# EAGLE library part IS61WV51216BLL-10TLI (library Rebel)
IS61WV51216BLL-10TLI - SRAM, 8MBIT, 10NS, 44TSOPII Manufacturer: INTEGRATED SILICON SOLUTION (ISSI) Farnell order code: 2253837 Manufacturer Part No: IS61WV51216BLL-10TLI Product Information SRAM, 8MBIT, 10NS, 44TSOPII Memory Size: 8Mbit Memory Configuration: 512K x 16bit Supply Voltage Min: 2.4V Supply Voltage Max: 3.6V Memory Case Style: TSOPII No. of Pins: 44 Access Time: 10ns Operating Temperature Min: -40°C Operating Temperature Max: 85°C MSL: MSL 3 - 168 hours SVHC: No SVHC (19-Dec-2012) Operating Temperature Range: -40°C to +85°C Supply Voltage Range: 2.4V to 3.6V
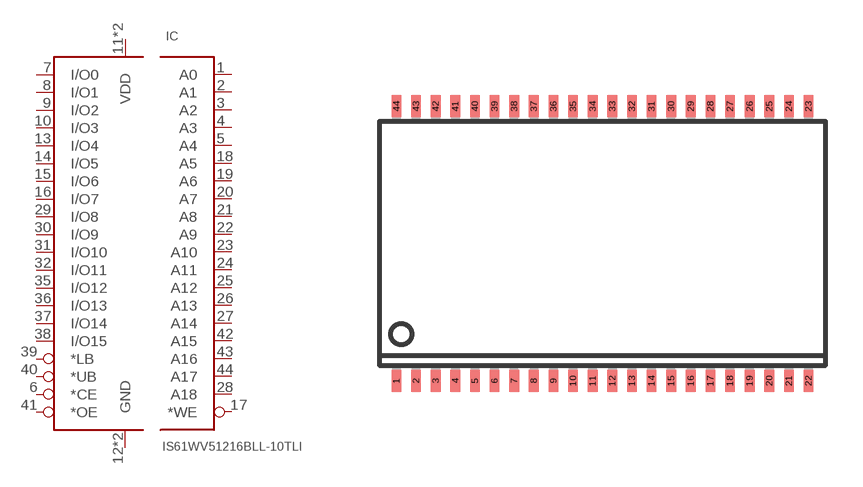
[diagram p0: symbol with the pads of TSOP44-II; footprint TSOP44-II]

Designator prefix IC

## IS61WV51216BLL-10TLI  [TSOP44-II]
1  A0  in
2  A1  in
3  A2  in
4  A3  in
5  A4  in
6  *CE
7  I/O0
8  I/O1
9  I/O2
10  I/O3
11  VDD  pwr
12  GND  pwr
13  I/O4
14  I/O5
15  I/O6
16  I/O7
17  *WE
18  A5  in
19  A6  in
20  A7  in
21  A8  in
22  A9  in
23  A10  in
24  A11  in
25  A12  in
26  A13  in
27  A14  in
28  A18  in
29  I/O8
30  I/O9
31  I/O10
32  I/O11
33  VDD  pwr
34  GND  pwr
35  I/O12
36  I/O13
37  I/O14
38  I/O15
39  *LB
40  *UB
41  *OE
42  A15  in
43  A16  in
44  A17  in

## Footprint TSOP44-II (pad centres in mm)
TSOPII 44 pins 44 lead Plastic Thin Small Outline Type II
smd 0.4 x 0.9: 1 -8.4,-5.6; 2 -7.6,-5.6; 3 -6.8,-5.6; 4 -6,-5.6; 5 -5.2,-5.6; 6 -4.4,-5.6; 7 -3.6,-5.6; 8 -2.8,-5.6; 9 -2,-5.6; 10 -1.2,-5.6; 11 -0.4,-5.6; 12 0.4,-5.6; 13 1.2,-5.6; 14 2,-5.6; 15 2.8,-5.6; 16 3.6,-5.6; 17 4.4,-5.6; 18 5.2,-5.6; 19 6,-5.6; 20 6.8,-5.6; 21 7.6,-5.6; 22 8.4,-5.6; 23 8.4,5.6; 24 7.6,5.6; 25 6.8,5.6; 26 6,5.6; 27 5.2,5.6; 28 4.4,5.6; 29 3.6,5.6; 30 2.8,5.6; 31 2,5.6; 32 1.2,5.6; 33 0.4,5.6; 34 -0.4,5.6; 35 -1.2,5.6; 36 -2,5.6; 37 -2.8,5.6; 38 -3.6,5.6; 39 -4.4,5.6; 40 -5.2,5.6; 41 -6,5.6; 42 -6.8,5.6; 43 -7.6,5.6; 44 -8.4,5.6